# Altium schematic symbol library HDSP-521E.SchLib: 1 symbol
Pins are listed as number, name and electrical type; pins without a type are passive.

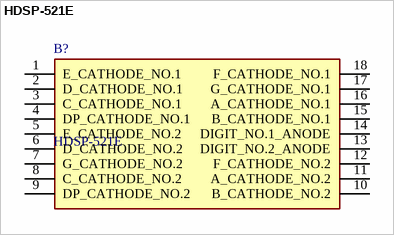
[diagram p0: symbol HDSP-521E]

## HDSP-521E
designator B?
AVAGO TECHNOLOGIES - HDSP-521E - LED DISPLAY, DUAL, 0.56", HE-RED; Geometry.Height: 8.25mm; Mouser Part Number: 630-HDSP-521E; Mouser Price/Stock: https://www.mouser.co.uk/ProductDetail/Broadcom-Avago/HDSP-521E?qs=pQfy5%252BKCabIW5pTqWifotQ%3D%3D; Manufacturer_Name: Avago Technologies; Manufacturer_Part_Number: HDSP-521E; Datasheet Link: https://componentsearchengine.com/Datasheets/2/HDSP-521E.pdf
footprint DIPS1524W50P254L2500H825Q18N
pins: 1 E_CATHODE_NO.1, 2 D_CATHODE_NO.1, 3 C_CATHODE_NO.1, 4 DP_CATHODE_NO.1, 5 E_CATHODE_NO.2, 6 D_CATHODE_NO.2, 7 G_CATHODE_NO.2, 8 C_CATHODE_NO.2, 9 DP_CATHODE_NO.2, 10 B_CATHODE_NO.2, 11 A_CATHODE_NO.2, 12 F_CATHODE_NO.2, 13 DIGIT_NO.2_ANODE, 14 DIGIT_NO.1_ANODE, 15 B_CATHODE_NO.1, 16 A_CATHODE_NO.1, 17 G_CATHODE_NO.1, 18 F_CATHODE_NO.1